# EAGLE library part LC4032ZE_XXMN64 (library lattice_ispmach4000ze)
ispMACH 4032ZE csBGA64 Lattice Semiconductor Corporation - ispMACH 4000ZE Ultra Low Power, Low Cost CPLD Family Generated using Lattice BSDL models: http://www.latticesemi.com/dynamic/index.cfm?fuseaction=view_documents&document_type=36&sloc=01-01-02-01&source=sidebar
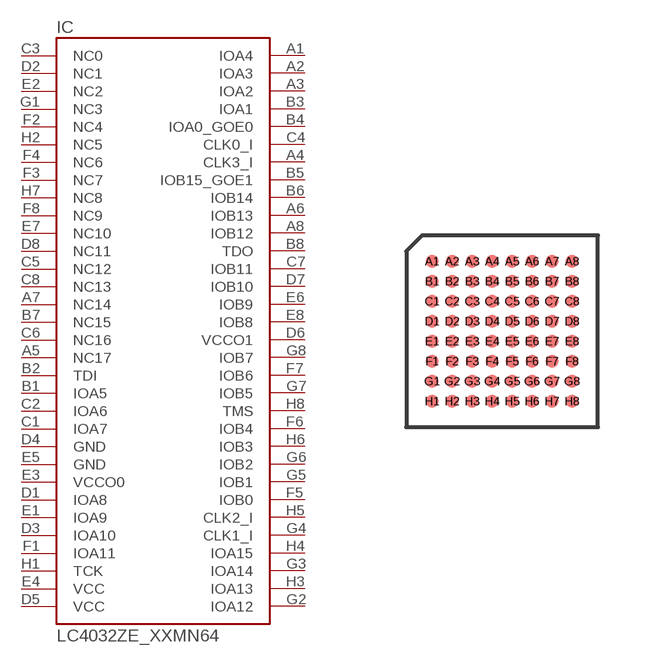
[diagram p7: symbol with the pads of CSBGA64; footprint CSBGA64]

Designator prefix IC

## LC4032ZE_XXMN64  [CSBGA64]
A1  IOA4
A2  IOA3
A3  IOA2
A4  CLK3_I  in
A5  NC17  pas
A6  IOB13
A7  NC14  pas
A8  IOB12
B1  IOA5
B2  TDI  in
B3  IOA1
B4  IOA0_GOE0
B5  IOB15_GOE1
B6  IOB14
B7  NC15  pas
B8  TDO  out
C1  IOA7
C2  IOA6
C3  NC0  pas
C4  CLK0_I  in
C5  NC12  pas
C6  NC16  pas
C7  IOB11
C8  NC13  pas
D1  IOA8
D2  NC1  pas
D3  IOA10
D4  GND  pwr
D5  VCC  pwr
D6  VCCO1  pwr
D7  IOB10
D8  NC11  pas
E1  IOA9
E2  NC2  pas
E3  VCCO0  pwr
E4  VCC  pwr
E5  GND  pwr
E6  IOB9
E7  NC10  pas
E8  IOB8
F1  IOA11
F2  NC4  pas
F3  NC7  pas
F4  NC6  pas
F5  IOB0
F6  IOB4
F7  IOB6
F8  NC9  pas
G1  NC3  pas
G2  IOA12
G3  IOA14
G4  CLK1_I  in
G5  IOB1
G6  IOB2
G7  IOB5
G8  IOB7
H1  TCK  in
H2  NC5  pas
H3  IOA13
H4  IOA15
H5  CLK2_I  in
H6  IOB3
H7  NC8  pas
H8  TMS  in

## Footprint CSBGA64 (pad centres in mm)
csBGA - 64 http://www.latticesemi.com/lit/docs/package/pkg.pdf
smd 0.32 x 0.32: A1 -1.75,1.75; A2 -1.25,1.75; A3 -0.75,1.75; A4 -0.25,1.75; A5 0.25,1.75; A6 0.75,1.75; A7 1.25,1.75; A8 1.75,1.75; B1 -1.75,1.25; B2 -1.25,1.25; B3 -0.75,1.25; B4 -0.25,1.25; B5 0.25,1.25; B6 0.75,1.25; B7 1.25,1.25; B8 1.75,1.25; C1 -1.75,0.75; C2 -1.25,0.75; C3 -0.75,0.75; C4 -0.25,0.75; C5 0.25,0.75; C6 0.75,0.75; C7 1.25,0.75; C8 1.75,0.75; D1 -1.75,0.25; D2 -1.25,0.25; D3 -0.75,0.25; D4 -0.25,0.25; D5 0.25,0.25; D6 0.75,0.25; D7 1.25,0.25; D8 1.75,0.25; E1 -1.75,-0.25; E2 -1.25,-0.25; E3 -0.75,-0.25; E4 -0.25,-0.25; E5 0.25,-0.25; E6 0.75,-0.25; E7 1.25,-0.25; E8 1.75,-0.25; F1 -1.75,-0.75; F2 -1.25,-0.75; F3 -0.75,-0.75; F4 -0.25,-0.75; F5 0.25,-0.75; F6 0.75,-0.75; F7 1.25,-0.75; F8 1.75,-0.75; G1 -1.75,-1.25; G2 -1.25,-1.25; G3 -0.75,-1.25; G4 -0.25,-1.25; G5 0.25,-1.25; G6 0.75,-1.25; G7 1.25,-1.25; G8 1.75,-1.25; H1 -1.75,-1.75; H2 -1.25,-1.75; H3 -0.75,-1.75; H4 -0.25,-1.75; H5 0.25,-1.75; H6 0.75,-1.75; H7 1.25,-1.75; H8 1.75,-1.75